# Altium footprint library User-Submitted.PCBLIB: 21 footprints (part 2 of 2)
Each footprint in its own frame and in the unit in brackets; x right, y up, seen from the top. Pads: shape width x height; smd on the part's side, far side on the other; paste and mask are expansions set on the pad; w line width, h text height; cw(c..) or ccw(c..) is an arc to the next point about the centre after c.
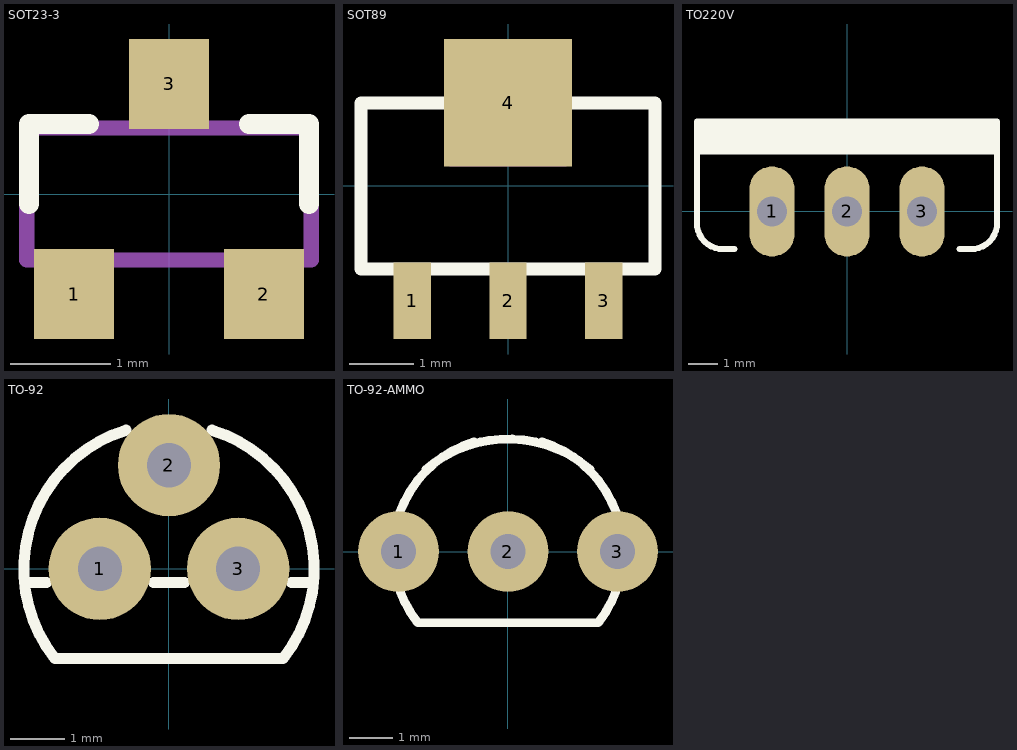
[diagram p1: the footprints below, top view; thin cyan lines are the x and y axes]

## SOT23-3 [mil]
pads (3):
  rect 31.5x35.43 smd: 1(-37.4,-39.37) 2(37.4,-39.37) 3(0,43.31)
Top Overlay:
  lines w8: -55.12,-3.94 -55.12,27.56 -31.5,27.56 ; 31.5,27.56 55.12,27.56 55.12,-3.94
Mechanical 16:
  lines w6: -56,-26 56,-26 56,26 -56,26 -56,-26

## SOT89 [mm]
pads (4):
  rect 0.58x1.2 smd: 1(-1.5,-1.8) 2(0,-1.8) 3(1.5,-1.8)
  rect 2x2 smd: 4(0,1.3)
Top Overlay:
  lines w0.203: -2.3,-1.3 2.3,-1.3 2.3,1.3 -2.3,1.3 -2.3,-1.3
Mechanical 16:
  rectangle: -0.915,0.303 0.915,2.157
  rectangle: -1.74,-2.23 -1.26,-1.27
  rectangle: -0.24,-2.23 0.24,-1.27
  rectangle: 1.26,-2.23 1.74,-1.27

## TO220V [mil]
pads (3):
  oval 60x120 hole 40: 1(-100,0) 2(0,0) 3(100,0)
Top Overlay:
  rectangle: -200,80 200,120
  lines w8: -150,-50 -165,-50 cw(c-165.83,-15.83) -200,-15 -200,80 ; 150,-50 165,-50 ccw(c165.83,-15.83) 200,-15 200,80 ; -200,80 200,80 ; -200,80 -200,120 200,120 200,80

## TO-92 [mil]
pads (3):
  round 74 hole 32: 1(-50,0) 2(0,75) 3(50,0)
Top Overlay:
  lines w8: -104.52,-10 -88.73,-10 ; -30.96,100.33 ccw(c0,0) -82.46,-65 82.46,-65 ccw(c0,0) 30.96,100.33 ; -11.27,-10 11.27,-10 ; 88.73,-10 104.52,-10

## TO-92-AMMO [mil]
pads (3):
  round 74 hole 32: 1(-100,0) 2(0,0) 3(100,0)
Top Overlay:
  lines w8: -75,75 cw(c0,-12.5) 25,100 ; -30.96,100.33 ccw(c0,0) -82.46,-65 82.46,-65 ccw(c0,0) 30.96,100.33 ; -25,100 cw(c0,-12.5) 25,100 ; 75,75 ccw(c0,-12.5) 25,100